# EAGLE library part TFP401 (library airball)
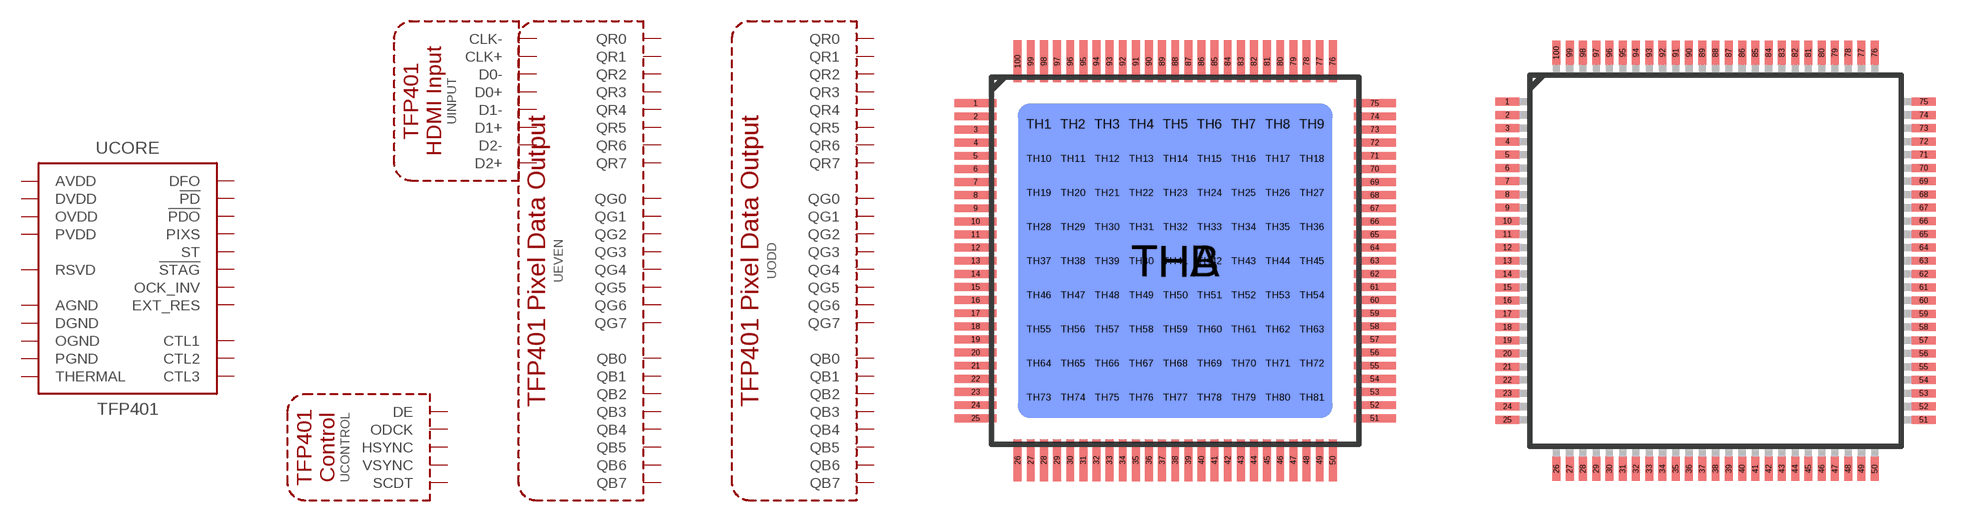
[diagram p5: symbol with the pads of TQFP100_POWER; footprints TQFP100_POWER, TQFP100]

Designator prefix -; gates CORE=TFP401_CORE EVEN=TFP401_PIXEL ODD=TFP401_PIXEL INPUT=TFP401_INPUT CONTROL=TFP401_CONTROL

## TFP401-POWER  [TQFP100_POWER]
1  CORE:DFO  in
2  CORE:!PD  in
3  CORE:ST  in
4  CORE:PIXS  in
5  CORE:DGND  pwr
6  CORE:DVDD  pwr
7  CORE:!STAG  in
8  CONTROL:SCDT  out
9  CORE:!PDO  in
10  EVEN:QB0  out
11  EVEN:QB1  out
12  EVEN:QB2  out
13  EVEN:QB3  out
14  EVEN:QB4  out
15  EVEN:QB5  out
16  EVEN:QB6  out
17  EVEN:QB7  out
18  CORE:OVDD  pwr
19  CORE:OGND  pwr
20  EVEN:QG0  out
21  EVEN:QG1  out
22  EVEN:QG2  out
23  EVEN:QG3  out
24  EVEN:QG4  out
25  EVEN:QG5  out
26  EVEN:QG6  out
27  EVEN:QG7  out
28  CORE:OGND  pwr
29  CORE:OVDD  pwr
30  EVEN:QR0  out
31  EVEN:QR1  out
32  EVEN:QR2  out
33  EVEN:QR3  out
34  EVEN:QR4  out
35  EVEN:QR5  out
36  EVEN:QR6  out
37  EVEN:QR7  out
38  CORE:DVDD  pwr
39  CORE:DGND  pwr
40  CORE:CTL1  out
41  CORE:CTL2  out
42  CORE:CTL3  out
43  CORE:OVDD  pwr
44  CONTROL:ODCK  out
45  CORE:OGND  pwr
46  CONTROL:DE  out
47  CONTROL:VSYNC  out
48  CONTROL:HSYNC  out
49  ODD:QB0  out
50  ODD:QB1  out
51  ODD:QB2  out
52  ODD:QB3  out
53  ODD:QB4  out
54  ODD:QB5  out
55  ODD:QB6  out
56  ODD:QB7  out
57  CORE:OVDD  pwr
58  CORE:OGND  pwr
59  ODD:QG0  out
60  ODD:QG1  out
61  ODD:QG2  out
62  ODD:QG3  out
63  ODD:QG4  out
64  ODD:QG5  out
65  ODD:QG6  out
66  ODD:QG7  out
67  CORE:DVDD  pwr
68  CORE:DGND  pwr
69  ODD:QR0  out
70  ODD:QR1  out
71  ODD:QR2  out
72  ODD:QR3  out
73  ODD:QR4  out
74  ODD:QR5  out
75  ODD:QR6  out
76  CORE:OGND  pwr
77  ODD:QR7  out
78  CORE:OVDD  pwr
79  CORE:AGND  pwr
80  INPUT:D2+  in
81  INPUT:D2-  in
82  CORE:AVDD  pwr
83  CORE:AGND  pwr
84  CORE:AVDD  pwr
85  INPUT:D1+  in
86  INPUT:D1-  in
87  CORE:AGND  pwr
88  CORE:AVDD  pwr
89  CORE:AGND  pwr
90  INPUT:D0+  in
91  INPUT:D0-  in
92  CORE:AGND  pwr
93  INPUT:CLK+  in
94  INPUT:CLK-  in
95  CORE:AVDD  pwr
96  CORE:EXT_RES  in
97  CORE:PVDD  pwr
98  CORE:PGND  pwr
99  CORE:RSVD
100  CORE:OCK_INV  in
TH1  CORE:THERMAL  pwr
TH2  CORE:THERMAL  pwr
TH3  CORE:THERMAL  pwr
TH4  CORE:THERMAL  pwr
TH5  CORE:THERMAL  pwr
TH6  CORE:THERMAL  pwr
TH7  CORE:THERMAL  pwr
TH8  CORE:THERMAL  pwr
TH9  CORE:THERMAL  pwr
TH10  CORE:THERMAL  pwr
TH11  CORE:THERMAL  pwr
TH12  CORE:THERMAL  pwr
TH13  CORE:THERMAL  pwr
TH14  CORE:THERMAL  pwr
TH15  CORE:THERMAL  pwr
TH16  CORE:THERMAL  pwr
TH17  CORE:THERMAL  pwr
TH18  CORE:THERMAL  pwr
TH19  CORE:THERMAL  pwr
TH20  CORE:THERMAL  pwr
TH21  CORE:THERMAL  pwr
TH22  CORE:THERMAL  pwr
TH23  CORE:THERMAL  pwr
TH24  CORE:THERMAL  pwr
TH25  CORE:THERMAL  pwr
TH26  CORE:THERMAL  pwr
TH27  CORE:THERMAL  pwr
TH28  CORE:THERMAL  pwr
TH29  CORE:THERMAL  pwr
TH30  CORE:THERMAL  pwr
TH31  CORE:THERMAL  pwr
TH32  CORE:THERMAL  pwr
TH33  CORE:THERMAL  pwr
TH34  CORE:THERMAL  pwr
TH35  CORE:THERMAL  pwr
TH36  CORE:THERMAL  pwr
TH37  CORE:THERMAL  pwr
TH38  CORE:THERMAL  pwr
TH39  CORE:THERMAL  pwr
TH40  CORE:THERMAL  pwr
TH41  CORE:THERMAL  pwr
TH42  CORE:THERMAL  pwr
TH43  CORE:THERMAL  pwr
TH44  CORE:THERMAL  pwr
TH45  CORE:THERMAL  pwr
TH46  CORE:THERMAL  pwr
TH47  CORE:THERMAL  pwr
TH48  CORE:THERMAL  pwr
TH49  CORE:THERMAL  pwr
TH50  CORE:THERMAL  pwr
TH51  CORE:THERMAL  pwr
TH52  CORE:THERMAL  pwr
TH53  CORE:THERMAL  pwr
TH54  CORE:THERMAL  pwr
TH55  CORE:THERMAL  pwr
TH56  CORE:THERMAL  pwr
TH57  CORE:THERMAL  pwr
TH58  CORE:THERMAL  pwr
TH59  CORE:THERMAL  pwr
TH60  CORE:THERMAL  pwr
TH61  CORE:THERMAL  pwr
TH62  CORE:THERMAL  pwr
TH63  CORE:THERMAL  pwr
TH64  CORE:THERMAL  pwr
TH65  CORE:THERMAL  pwr
TH66  CORE:THERMAL  pwr
TH67  CORE:THERMAL  pwr
TH68  CORE:THERMAL  pwr
TH69  CORE:THERMAL  pwr
TH70  CORE:THERMAL  pwr
TH71  CORE:THERMAL  pwr
TH72  CORE:THERMAL  pwr
TH73  CORE:THERMAL  pwr
TH74  CORE:THERMAL  pwr
TH75  CORE:THERMAL  pwr
TH76  CORE:THERMAL  pwr
TH77  CORE:THERMAL  pwr
TH78  CORE:THERMAL  pwr
TH79  CORE:THERMAL  pwr
TH80  CORE:THERMAL  pwr
TH81  CORE:THERMAL  pwr
THA  CORE:THERMAL  pwr
THB  CORE:THERMAL  pwr

## TFP401-NOTHERMAL  [TQFP100]
1  CORE:DFO  in
2  CORE:!PD  in
3  CORE:ST  in
4  CORE:PIXS  in
5  CORE:DGND  pwr
6  CORE:DVDD  pwr
7  CORE:!STAG  in
8  CONTROL:SCDT  out
9  CORE:!PDO  in
10  EVEN:QB0  out
11  EVEN:QB1  out
12  EVEN:QB2  out
13  EVEN:QB3  out
14  EVEN:QB4  out
15  EVEN:QB5  out
16  EVEN:QB6  out
17  EVEN:QB7  out
18  CORE:OVDD  pwr
19  CORE:OGND  pwr
20  EVEN:QG0  out
21  EVEN:QG1  out
22  EVEN:QG2  out
23  EVEN:QG3  out
24  EVEN:QG4  out
25  EVEN:QG5  out
26  EVEN:QG6  out
27  EVEN:QG7  out
28  CORE:OGND  pwr
29  CORE:OVDD  pwr
30  EVEN:QR0  out
31  EVEN:QR1  out
32  EVEN:QR2  out
33  EVEN:QR3  out
34  EVEN:QR4  out
35  EVEN:QR5  out
36  EVEN:QR6  out
37  EVEN:QR7  out
38  CORE:DVDD  pwr
39  CORE:DGND  pwr
40  CORE:CTL1  out
41  CORE:CTL2  out
42  CORE:CTL3  out
43  CORE:OVDD  pwr
44  CONTROL:ODCK  out
45  CORE:OGND  pwr
46  CONTROL:DE  out
47  CONTROL:VSYNC  out
48  CONTROL:HSYNC  out
49  ODD:QB0  out
50  ODD:QB1  out
51  ODD:QB2  out
52  ODD:QB3  out
53  ODD:QB4  out
54  ODD:QB5  out
55  ODD:QB6  out
56  ODD:QB7  out
57  CORE:OVDD  pwr
58  CORE:OGND  pwr
59  ODD:QG0  out
60  ODD:QG1  out
61  ODD:QG2  out
62  ODD:QG3  out
63  ODD:QG4  out
64  ODD:QG5  out
65  ODD:QG6  out
66  ODD:QG7  out
67  CORE:DVDD  pwr
68  CORE:DGND  pwr
69  ODD:QR0  out
70  ODD:QR1  out
71  ODD:QR2  out
72  ODD:QR3  out
73  ODD:QR4  out
74  ODD:QR5  out
75  ODD:QR6  out
76  CORE:OGND  pwr
77  ODD:QR7  out
78  CORE:OVDD  pwr
79  CORE:AGND  pwr
80  INPUT:D2+  in
81  INPUT:D2-  in
82  CORE:AVDD  pwr
83  CORE:AGND  pwr
84  CORE:AVDD  pwr
85  INPUT:D1+  in
86  INPUT:D1-  in
87  CORE:AGND  pwr
88  CORE:AVDD  pwr
89  CORE:AGND  pwr
90  INPUT:D0+  in
91  INPUT:D0-  in
92  CORE:AGND  pwr
93  INPUT:CLK+  in
94  INPUT:CLK-  in
95  CORE:AVDD  pwr
96  CORE:EXT_RES  in
97  CORE:PVDD  pwr
98  CORE:PGND  pwr
99  CORE:RSVD
100  CORE:OCK_INV  in

## TFP401-POWER_LITE  [TQFP100_POWER_LITE]
1  CORE:DFO  in
2  CORE:!PD  in
3  CORE:ST  in
4  CORE:PIXS  in
5  CORE:DGND  pwr
6  CORE:DVDD  pwr
7  CORE:!STAG  in
8  CONTROL:SCDT  out
9  CORE:!PDO  in
10  EVEN:QB0  out
11  EVEN:QB1  out
12  EVEN:QB2  out
13  EVEN:QB3  out
14  EVEN:QB4  out
15  EVEN:QB5  out
16  EVEN:QB6  out
17  EVEN:QB7  out
18  CORE:OVDD  pwr
19  CORE:OGND  pwr
20  EVEN:QG0  out
21  EVEN:QG1  out
22  EVEN:QG2  out
23  EVEN:QG3  out
24  EVEN:QG4  out
25  EVEN:QG5  out
26  EVEN:QG6  out
27  EVEN:QG7  out
28  CORE:OGND  pwr
29  CORE:OVDD  pwr
30  EVEN:QR0  out
31  EVEN:QR1  out
32  EVEN:QR2  out
33  EVEN:QR3  out
34  EVEN:QR4  out
35  EVEN:QR5  out
36  EVEN:QR6  out
37  EVEN:QR7  out
38  CORE:DVDD  pwr
39  CORE:DGND  pwr
40  CORE:CTL1  out
41  CORE:CTL2  out
42  CORE:CTL3  out
43  CORE:OVDD  pwr
44  CONTROL:ODCK  out
45  CORE:OGND  pwr
46  CONTROL:DE  out
47  CONTROL:VSYNC  out
48  CONTROL:HSYNC  out
49  ODD:QB0  out
50  ODD:QB1  out
51  ODD:QB2  out
52  ODD:QB3  out
53  ODD:QB4  out
54  ODD:QB5  out
55  ODD:QB6  out
56  ODD:QB7  out
57  CORE:OVDD  pwr
58  CORE:OGND  pwr
59  ODD:QG0  out
60  ODD:QG1  out
61  ODD:QG2  out
62  ODD:QG3  out
63  ODD:QG4  out
64  ODD:QG5  out
65  ODD:QG6  out
66  ODD:QG7  out
67  CORE:DVDD  pwr
68  CORE:DGND  pwr
69  ODD:QR0  out
70  ODD:QR1  out
71  ODD:QR2  out
72  ODD:QR3  out
73  ODD:QR4  out
74  ODD:QR5  out
75  ODD:QR6  out
76  CORE:OGND  pwr
77  ODD:QR7  out
78  CORE:OVDD  pwr
79  CORE:AGND  pwr
80  INPUT:D2+  in
81  INPUT:D2-  in
82  CORE:AVDD  pwr
83  CORE:AGND  pwr
84  CORE:AVDD  pwr
85  INPUT:D1+  in
86  INPUT:D1-  in
87  CORE:AGND  pwr
88  CORE:AVDD  pwr
89  CORE:AGND  pwr
90  INPUT:D0+  in
91  INPUT:D0-  in
92  CORE:AGND  pwr
93  INPUT:CLK+  in
94  INPUT:CLK-  in
95  CORE:AVDD  pwr
96  CORE:EXT_RES  in
97  CORE:PVDD  pwr
98  CORE:PGND  pwr
99  CORE:RSVD
100  CORE:OCK_INV  in
TH21  CORE:THERMAL  pwr
TH22  CORE:THERMAL  pwr
TH23  CORE:THERMAL  pwr
TH24  CORE:THERMAL  pwr
TH25  CORE:THERMAL  pwr
TH30  CORE:THERMAL  pwr
TH34  CORE:THERMAL  pwr
TH39  CORE:THERMAL  pwr
TH43  CORE:THERMAL  pwr
TH48  CORE:THERMAL  pwr
TH52  CORE:THERMAL  pwr
TH57  CORE:THERMAL  pwr
TH58  CORE:THERMAL  pwr
TH59  CORE:THERMAL  pwr
TH60  CORE:THERMAL  pwr
TH61  CORE:THERMAL  pwr
THA  CORE:THERMAL  pwr
THB  CORE:THERMAL  pwr

## Footprint TQFP100_POWER (pad centres in mm)
PLASTIC 100-PIN TQFP (PZP)
smd 1.6 x 0.3: 1 -7.6,6; 2 -7.6,5.5; 3 -7.6,5; 4 -7.6,4.5; 5 -7.6,4; 6 -7.6,3.5; 7 -7.6,3; 8 -7.6,2.5; 9 -7.6,2; 10 -7.6,1.5; 11 -7.6,1; 12 -7.6,0.5; 13 -7.6,0; 14 -7.6,-0.5; 15 -7.6,-1; 16 -7.6,-1.5; 17 -7.6,-2; 18 -7.6,-2.5; 19 -7.6,-3; 20 -7.6,-3.5; 21 -7.6,-4; 22 -7.6,-4.5; 23 -7.6,-5; 24 -7.6,-5.5; 25 -7.6,-6; 51 7.6,-6; 52 7.6,-5.5; 53 7.6,-5; 54 7.6,-4.5; 55 7.6,-4; 56 7.6,-3.5; 57 7.6,-3; 58 7.6,-2.5; 59 7.6,-2; 60 7.6,-1.5; 61 7.6,-1; 62 7.6,-0.5; 63 7.6,0; 64 7.6,0.5; 65 7.6,1; 66 7.6,1.5; 67 7.6,2; 68 7.6,2.5; 69 7.6,3; 70 7.6,3.5; 71 7.6,4; 72 7.6,4.5; 73 7.6,5; 74 7.6,5.5; 75 7.6,6
smd 0.3 x 1.6: 26 -6,-7.6; 27 -5.5,-7.6; 28 -5,-7.6; 29 -4.5,-7.6; 30 -4,-7.6; 31 -3.5,-7.6; 32 -3,-7.6; 33 -2.5,-7.6; 34 -2,-7.6; 35 -1.5,-7.6; 36 -1,-7.6; 37 -0.5,-7.6; 38 0,-7.6; 39 0.5,-7.6; 40 1,-7.6; 41 1.5,-7.6; 42 2,-7.6; 43 2.5,-7.6; 44 3,-7.6; 45 3.5,-7.6; 46 4,-7.6; 47 4.5,-7.6; 48 5,-7.6; 49 5.5,-7.6; 50 6,-7.6; 76 6,7.6; 77 5.5,7.6; 78 5,7.6; 79 4.5,7.6; 80 4,7.6; 81 3.5,7.6; 82 3,7.6; 83 2.5,7.6; 84 2,7.6; 85 1.5,7.6; 86 1,7.6; 87 0.5,7.6; 88 0,7.6; 89 -0.5,7.6; 90 -1,7.6; 91 -1.5,7.6; 92 -2,7.6; 93 -2.5,7.6; 94 -3,7.6; 95 -3.5,7.6; 96 -4,7.6; 97 -4.5,7.6; 98 -5,7.6; 99 -5.5,7.6; 100 -6,7.6
drill 0.3: TH1 -5.2,5.2; TH2 -3.9,5.2; TH3 -2.6,5.2; TH4 -1.3,5.2; TH5 0,5.2; TH6 1.3,5.2; TH7 2.6,5.2; TH8 3.9,5.2; TH9 5.2,5.2; TH10 -5.2,3.9; TH11 -3.9,3.9; TH12 -2.6,3.9; TH13 -1.3,3.9; TH14 0,3.9; TH15 1.3,3.9; TH16 2.6,3.9; TH17 3.9,3.9; TH18 5.2,3.9; TH19 -5.2,2.6; TH20 -3.9,2.6; TH21 -2.6,2.6; TH22 -1.3,2.6; TH23 0,2.6; TH24 1.3,2.6; TH25 2.6,2.6; TH26 3.9,2.6; TH27 5.2,2.6; TH28 -5.2,1.3; TH29 -3.9,1.3; TH30 -2.6,1.3; TH31 -1.3,1.3; TH32 0,1.3; TH33 1.3,1.3; TH34 2.6,1.3; TH35 3.9,1.3; TH36 5.2,1.3; TH37 -5.2,0; TH38 -3.9,0; TH39 -2.6,0; TH40 -1.3,0; TH41 0,0; TH42 1.3,0; TH43 2.6,0; TH44 3.9,0; TH45 5.2,0; TH46 -5.2,-1.3; TH47 -3.9,-1.3; TH48 -2.6,-1.3; TH49 -1.3,-1.3; TH50 0,-1.3; TH51 1.3,-1.3; TH52 2.6,-1.3; TH53 3.9,-1.3; TH54 5.2,-1.3; TH55 -5.2,-2.6; TH56 -3.9,-2.6; TH57 -2.6,-2.6; TH58 -1.3,-2.6; TH59 0,-2.6; TH60 1.3,-2.6; TH61 2.6,-2.6; TH62 3.9,-2.6; TH63 5.2,-2.6; TH64 -5.2,-3.9; TH65 -3.9,-3.9; TH66 -2.6,-3.9; TH67 -1.3,-3.9; TH68 0,-3.9; TH69 1.3,-3.9; TH70 2.6,-3.9; TH71 3.9,-3.9; TH72 5.2,-3.9; TH73 -5.2,-5.2; TH74 -3.9,-5.2; TH75 -2.6,-5.2; TH76 -1.3,-5.2; TH77 0,-5.2; TH78 1.3,-5.2; TH79 2.6,-5.2; TH80 3.9,-5.2; TH81 5.2,-5.2
smd 12 x 12: THA 0,0
smd 12 x 12 bottom: THB 0,0

## Footprint TQFP100 (pad centres in mm)
PLASTIC 100-PIN TQFP (PZ) Auto generated by make-symbol-device-package-bsdl.ulp Rev. 19 Source: http://focus.ti.com/docs/prod/folders/print/msp430fg4618.html
smd 0.9 x 0.3: 1 -7.85,6; 2 -7.85,5.5; 3 -7.85,5; 4 -7.85,4.5; 5 -7.85,4; 6 -7.85,3.5; 7 -7.85,3; 8 -7.85,2.5; 9 -7.85,2; 10 -7.85,1.5; 11 -7.85,1; 12 -7.85,0.5; 13 -7.85,0; 14 -7.85,-0.5; 15 -7.85,-1; 16 -7.85,-1.5; 17 -7.85,-2; 18 -7.85,-2.5; 19 -7.85,-3; 20 -7.85,-3.5; 21 -7.85,-4; 22 -7.85,-4.5; 23 -7.85,-5; 24 -7.85,-5.5; 25 -7.85,-6; 51 7.85,-6; 52 7.85,-5.5; 53 7.85,-5; 54 7.85,-4.5; 55 7.85,-4; 56 7.85,-3.5; 57 7.85,-3; 58 7.85,-2.5; 59 7.85,-2; 60 7.85,-1.5; 61 7.85,-1; 62 7.85,-0.5; 63 7.85,0; 64 7.85,0.5; 65 7.85,1; 66 7.85,1.5; 67 7.85,2; 68 7.85,2.5; 69 7.85,3; 70 7.85,3.5; 71 7.85,4; 72 7.85,4.5; 73 7.85,5; 74 7.85,5.5; 75 7.85,6
smd 0.3 x 0.9: 26 -6,-7.85; 27 -5.5,-7.85; 28 -5,-7.85; 29 -4.5,-7.85; 30 -4,-7.85; 31 -3.5,-7.85; 32 -3,-7.85; 33 -2.5,-7.85; 34 -2,-7.85; 35 -1.5,-7.85; 36 -1,-7.85; 37 -0.5,-7.85; 38 0,-7.85; 39 0.5,-7.85; 40 1,-7.85; 41 1.5,-7.85; 42 2,-7.85; 43 2.5,-7.85; 44 3,-7.85; 45 3.5,-7.85; 46 4,-7.85; 47 4.5,-7.85; 48 5,-7.85; 49 5.5,-7.85; 50 6,-7.85; 76 6,7.85; 77 5.5,7.85; 78 5,7.85; 79 4.5,7.85; 80 4,7.85; 81 3.5,7.85; 82 3,7.85; 83 2.5,7.85; 84 2,7.85; 85 1.5,7.85; 86 1,7.85; 87 0.5,7.85; 88 0,7.85; 89 -0.5,7.85; 90 -1,7.85; 91 -1.5,7.85; 92 -2,7.85; 93 -2.5,7.85; 94 -3,7.85; 95 -3.5,7.85; 96 -4,7.85; 97 -4.5,7.85; 98 -5,7.85; 99 -5.5,7.85; 100 -6,7.85

## Footprint TQFP100_POWER_LITE (pad centres in mm)
PLASTIC 100-PIN TQFP (PZP)
smd 1.6 x 0.3: 1 -7.6,6; 2 -7.6,5.5; 3 -7.6,5; 4 -7.6,4.5; 5 -7.6,4; 6 -7.6,3.5; 7 -7.6,3; 8 -7.6,2.5; 9 -7.6,2; 10 -7.6,1.5; 11 -7.6,1; 12 -7.6,0.5; 13 -7.6,0; 14 -7.6,-0.5; 15 -7.6,-1; 16 -7.6,-1.5; 17 -7.6,-2; 18 -7.6,-2.5; 19 -7.6,-3; 20 -7.6,-3.5; 21 -7.6,-4; 22 -7.6,-4.5; 23 -7.6,-5; 24 -7.6,-5.5; 25 -7.6,-6; 51 7.6,-6; 52 7.6,-5.5; 53 7.6,-5; 54 7.6,-4.5; 55 7.6,-4; 56 7.6,-3.5; 57 7.6,-3; 58 7.6,-2.5; 59 7.6,-2; 60 7.6,-1.5; 61 7.6,-1; 62 7.6,-0.5; 63 7.6,0; 64 7.6,0.5; 65 7.6,1; 66 7.6,1.5; 67 7.6,2; 68 7.6,2.5; 69 7.6,3; 70 7.6,3.5; 71 7.6,4; 72 7.6,4.5; 73 7.6,5; 74 7.6,5.5; 75 7.6,6
smd 0.3 x 1.6: 26 -6,-7.6; 27 -5.5,-7.6; 28 -5,-7.6; 29 -4.5,-7.6; 30 -4,-7.6; 31 -3.5,-7.6; 32 -3,-7.6; 33 -2.5,-7.6; 34 -2,-7.6; 35 -1.5,-7.6; 36 -1,-7.6; 37 -0.5,-7.6; 38 0,-7.6; 39 0.5,-7.6; 40 1,-7.6; 41 1.5,-7.6; 42 2,-7.6; 43 2.5,-7.6; 44 3,-7.6; 45 3.5,-7.6; 46 4,-7.6; 47 4.5,-7.6; 48 5,-7.6; 49 5.5,-7.6; 50 6,-7.6; 76 6,7.6; 77 5.5,7.6; 78 5,7.6; 79 4.5,7.6; 80 4,7.6; 81 3.5,7.6; 82 3,7.6; 83 2.5,7.6; 84 2,7.6; 85 1.5,7.6; 86 1,7.6; 87 0.5,7.6; 88 0,7.6; 89 -0.5,7.6; 90 -1,7.6; 91 -1.5,7.6; 92 -2,7.6; 93 -2.5,7.6; 94 -3,7.6; 95 -3.5,7.6; 96 -4,7.6; 97 -4.5,7.6; 98 -5,7.6; 99 -5.5,7.6; 100 -6,7.6
drill 0.3: TH21 -2.6,2.6; TH22 -1.3,2.6; TH23 0,2.6; TH24 1.3,2.6; TH25 2.6,2.6; TH30 -2.6,1.3; TH34 2.6,1.3; TH39 -2.6,0; TH43 2.6,0; TH48 -2.6,-1.3; TH52 2.6,-1.3; TH57 -2.6,-2.6; TH58 -1.3,-2.6; TH59 0,-2.6; TH60 1.3,-2.6; TH61 2.6,-2.6
smd 6.5 x 6.5: THA 0,0
smd 6.5 x 6.5 bottom: THB 0,0